# EAGLE library part MAX232 (library rs232-rs485)
RS232 TRANSEIVER
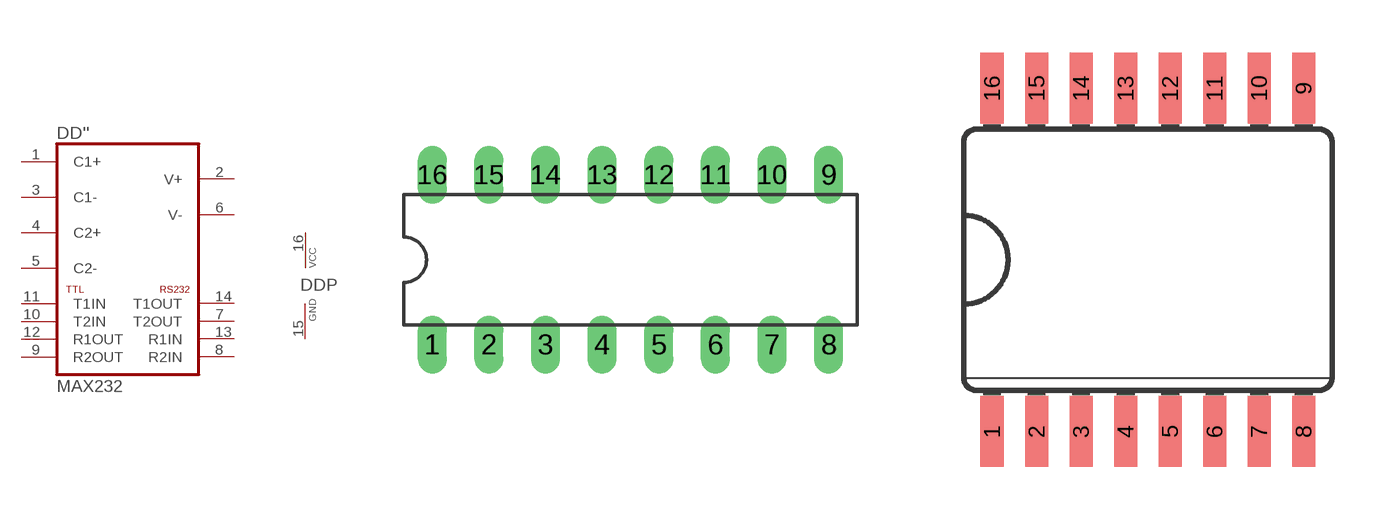
[diagram p2: symbol with the pads of DIL16; footprints DIL16, SO16L]

Designator prefix DD; gates ''=MAX232 P=VCC-GND

## MAX232  [DIL16]
1  '':C1+
2  '':V+
3  '':C1-
4  '':C2+
5  '':C2-
6  '':V-
7  '':T2OUT  out
8  '':R2IN  in
9  '':R2OUT  out
10  '':T2IN  in
11  '':T1IN  in
12  '':R1OUT  out
13  '':R1IN  in
14  '':T1OUT  out
15  P:GND  pwr
16  P:VCC  pwr

## MAX232ECWE  [SO16L]
Pads as for DIL16

## MAX232-SO  [SO16]
Pads as for DIL16

## Footprint DIL16 (pad centres in mm)
Dual In Line Package
drill 0.8 long: 1 -8.89,-3.81; 2 -6.35,-3.81; 3 -3.81,-3.81; 4 -1.27,-3.81; 5 1.27,-3.81; 6 3.81,-3.81; 7 6.35,-3.81; 8 8.89,-3.81; 9 8.89,3.81; 10 6.35,3.81; 11 3.81,3.81; 12 1.27,3.81; 13 -1.27,3.81; 14 -3.81,3.81; 15 -6.35,3.81; 16 -8.89,3.81

## Footprint SO16L (pad centres in mm)
Small Outline Package
smd 0.66 x 2.032: 1 -4.445,-4.902; 2 -3.175,-4.902; 3 -1.905,-4.902; 4 -0.635,-4.902; 5 0.635,-4.902; 6 1.905,-4.902; 7 3.175,-4.902; 8 4.445,-4.902; 9 4.445,4.902; 10 3.175,4.902; 11 1.905,4.902; 12 0.635,4.902; 13 -0.635,4.902; 14 -1.905,4.902; 15 -3.175,4.902; 16 -4.445,4.902

## Footprint SO16 (pad centres in mm)
Small Outline Package
smd 0.66 x 2.032: 1 -4.445,-3.073; 2 -3.175,-3.073; 3 -1.905,-3.073; 4 -0.635,-3.073; 5 0.635,-3.073; 6 1.905,-3.073; 7 3.175,-3.073; 8 4.445,-3.073; 9 4.445,3.073; 10 3.175,3.073; 11 1.905,3.073; 12 0.635,3.073; 13 -0.635,3.073; 14 -1.905,3.073; 15 -3.175,3.073; 16 -4.445,3.073